# Altium footprint library WR-TBL_Wire Protector_7.50mm.PcbLib: 6 footprints
Each footprint in its own frame and in the unit in brackets; x right, y up, seen from the top. Pads: shape width x height; smd on the part's side, far side on the other; paste and mask are expansions set on the pad; w line width, h text height; cw(c..) or ccw(c..) is an arc to the next point about the centre after c.
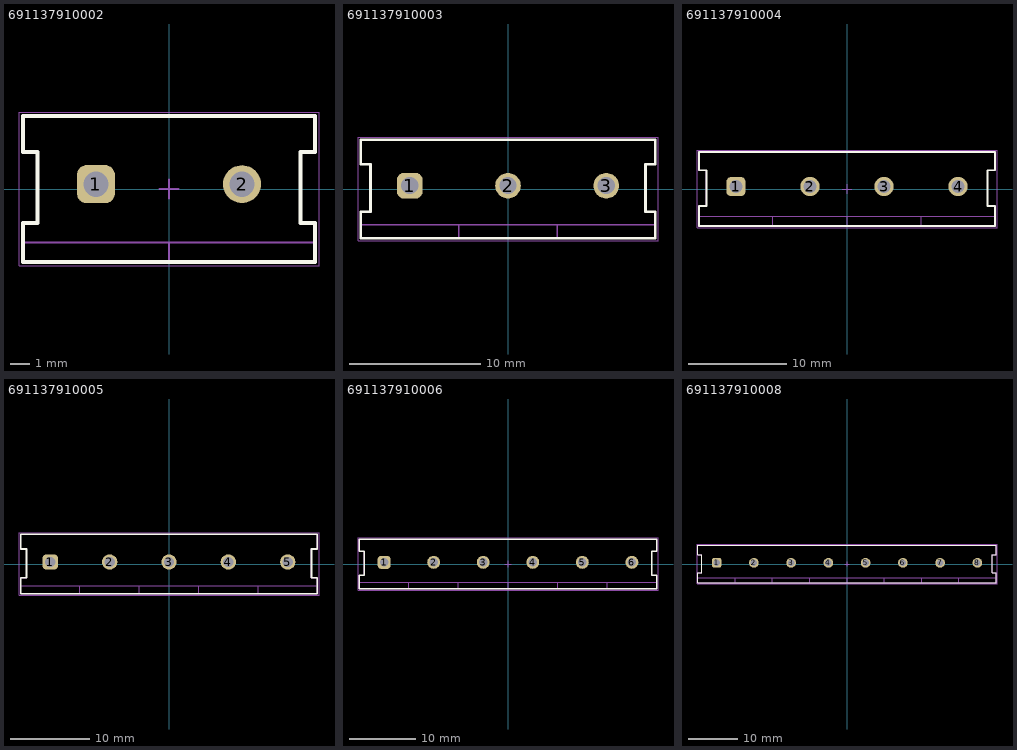
[diagram p0: the footprints below, top view; thin cyan lines are the x and y axes]

## 691137910002 [mm] "Horizontal Cable Entry with Pressure Clamp, pitch 7.5mm, 02p"
height 11.5
pads (2):
  rrect50% 1.95x1.95 hole 1.3: 1(-3.75,0.25)
  round 1.95 hole 1.3: 2(3.75,0.25)
Top Overlay:
  lines w0.2: -7.5,-3.75 -7.5,-1.74 -6.75,-1.74 -6.75,1.9 -7.5,1.9 -7.5,3.75 7.5,3.75 7.5,1.9 6.75,1.9 6.75,-1.74 7.5,-1.74 7.5,-3.75 -7.5,-3.75
Top Assembly:
  lines w0.1: -7.5,-2.745 7.5,-2.745 ; 0,-3.75 0,-2.75 ; -7.5,-3.75 7.5,-3.75 7.5,-1.74 6.75,-1.74 6.75,1.9 7.5,1.9 7.5,3.75 -7.5,3.75 -7.5,1.9 -6.75,1.9 -6.75,-1.74 -7.5,-1.74 -7.5,-3.75
Top Designator:
  text ".Designator" at -3.647,-0.357 h1
Top 3D Body:
  lines w0.1: -7.5,-2.745 7.5,-2.745 ; 0,-3.75 0,-2.75 ; -7.5,-3.75 -7.5,-1.74 -6.75,-1.74 -6.75,1.9 -7.5,1.9 -7.5,3.75 7.5,3.75 7.5,1.9 6.75,1.9 6.75,-1.74 7.5,-1.74 7.5,-3.75 -7.5,-3.75
Top Courtyard:
  lines w0.05: -7.7,-3.95 -7.7,3.95 7.7,3.95 7.7,-3.95 -7.7,-3.95
Top Component Center:
  lines w0.1: -0.5,0 0.5,0 ; 0,-0.5 0,0.5
3D body "691137910002.stp": height 11.52, standoff -3.58, extent -7.5,-3.75 7.5,3.75

## 691137910003 [mm] "Horizontal Cable Entry with Pressure Clamp, pitch 7.5mm, 03p"
height 11.5
pads (3):
  rrect50% 1.95x1.95 hole 1.3: 1(-7.5,0.25)
  round 1.95 hole 1.3: 2(0,0.25) 3(7.5,0.25)
Top Overlay:
  lines w0.2: -11.25,-3.75 -11.25,-1.74 -10.5,-1.74 -10.5,1.9 -11.25,1.9 -11.25,3.75 11.25,3.75 11.25,1.9 10.5,1.9 10.5,-1.74 11.25,-1.74 11.25,-3.75 -11.25,-3.75
Top Assembly:
  lines w0.1: -11.25,-2.745 11.25,-2.745 ; -3.75,-3.75 -3.75,-2.75 ; 3.75,-3.75 3.75,-2.75 ; -11.25,-3.75 11.25,-3.75 11.25,-1.74 10.5,-1.74 10.5,1.9 11.25,1.9 11.25,3.75 -11.25,3.75 -11.25,1.9 -10.5,1.9 -10.5,-1.74 -11.25,-1.74 -11.25,-3.75
Top Designator:
  text ".Designator" at -3.647,-0.357 h1
Top 3D Body:
  lines w0.1: -11.25,-2.745 11.25,-2.745 ; -3.75,-3.75 -3.75,-2.75 ; 3.75,-3.75 3.75,-2.75 ; -11.25,-3.75 -11.25,-1.74 -10.5,-1.74 -10.5,1.9 -11.25,1.9 -11.25,3.75 11.25,3.75 11.25,1.9 10.5,1.9 10.5,-1.74 11.25,-1.74 11.25,-3.75 -11.25,-3.75
Top Courtyard:
  lines w0.05: -11.45,-3.95 -11.45,3.95 11.45,3.95 11.45,-3.95 -11.45,-3.95
Top Component Center:
  lines w0.1: -0.5,0 0.5,0 ; 0,-0.5 0,0.5
3D body "691137910003.stp": height 11.52, standoff -3.58, extent -11.25,-3.75 11.25,3.75

## 691137910004 [mm] "Horizontal Cable Entry with Pressure Clamp, pitch 7.5mm, 04p"
height 11.5
pads (4):
  rrect50% 1.95x1.95 hole 1.3: 1(-11.25,0.25)
  round 1.95 hole 1.3: 2(-3.75,0.25) 3(3.75,0.25) 4(11.25,0.25)
Top Overlay:
  lines w0.2: -15,-3.75 15,-3.75 15,-1.74 14.25,-1.74 14.25,1.9 15,1.9 15,3.75 -15,3.75 -15,1.9 -14.25,1.9 -14.25,-1.74 -15,-1.74 -15,-3.75
Top Assembly:
  lines w0.1: -15,-2.745 15,-2.745 ; -7.5,-3.75 -7.5,-2.75 ; 0,-3.75 0,-2.75 ; 7.5,-3.75 7.5,-2.75 ; -15,-3.75 -15,-1.74 -14.25,-1.74 -14.25,1.9 -15,1.9 -15,3.75 15,3.75 15,1.9 14.25,1.9 14.25,-1.74 15,-1.74 15,-3.75 -15,-3.75
Top Designator:
  text ".Designator" at -3.647,-0.357 h1
Top 3D Body:
  lines w0.1: -15,-2.745 15,-2.745 ; -7.5,-3.75 -7.5,-2.75 ; 0,-3.75 0,-2.75 ; 7.5,-3.75 7.5,-2.75 ; -15,-3.75 15,-3.75 15,-1.74 14.25,-1.74 14.25,1.9 15,1.9 15,3.75 -15,3.75 -15,1.9 -14.25,1.9 -14.25,-1.74 -15,-1.74 -15,-3.75
Top Courtyard:
  lines w0.05: -15.2,-3.95 15.2,-3.95 15.2,3.95 -15.2,3.95 -15.2,-3.95
Top Component Center:
  lines w0.1: -0.5,0 0.5,0 ; 0,-0.5 0,0.5
3D body "691137910004.stp": height 11.52, standoff -3.58, extent -15,-3.75 15,3.75

## 691137910005 [mm] "Horizontal Cable Entry with Pressure Clamp, pitch 7.5mm, 05p"
height 11.5
pads (5):
  rrect50% 1.95x1.95 hole 1.3: 1(-15,0.25)
  round 1.95 hole 1.3: 2(-7.5,0.25) 3(0,0.25) 4(7.5,0.25) 5(15,0.25)
Top Overlay:
  lines w0.2: -18.75,-3.75 18.75,-3.75 18.75,-1.74 18,-1.74 18,1.9 18.75,1.9 18.75,3.75 -18.75,3.75 -18.75,1.9 -18,1.9 -18,-1.74 -18.75,-1.74 -18.75,-3.75
Top Assembly:
  lines w0.1: -18.75,-2.745 18.75,-2.745 ; -11.25,-3.75 -11.25,-2.75 ; -3.75,-3.75 -3.75,-2.75 ; 3.75,-3.75 3.75,-2.75 ; 11.25,-3.75 11.25,-2.75 ; -18.75,-3.75 -18.75,-1.74 -18,-1.74 -18,1.9 -18.75,1.9 -18.75,3.75 18.75,3.75 18.75,1.9 18,1.9 18,-1.74 18.75,-1.74 18.75,-3.75 -18.75,-3.75
Top Designator:
  text ".Designator" at -3.647,-0.357 h1
Top 3D Body:
  lines w0.1: -18.75,-2.745 18.75,-2.745 ; -11.25,-3.75 -11.25,-2.75 ; -3.75,-3.75 -3.75,-2.75 ; 3.75,-3.75 3.75,-2.75 ; 11.25,-3.75 11.25,-2.75 ; -18.75,-3.75 18.75,-3.75 18.75,-1.74 18,-1.74 18,1.9 18.75,1.9 18.75,3.75 -18.75,3.75 -18.75,1.9 -18,1.9 -18,-1.74 -18.75,-1.74 -18.75,-3.75
Top Courtyard:
  lines w0.05: -18.95,-3.95 18.95,-3.95 18.95,3.95 -18.95,3.95 -18.95,-3.95
Top Component Center:
  lines w0.1: -0.5,0 0.5,0 ; 0,-0.5 0,0.5
3D body "691137910005.stp": height 11.52, standoff -3.58, extent -18.75,-3.75 18.75,3.75

## 691137910006 [mm] "Horizontal Cable Entry with Pressure Clamp, pitch 7.5mm, 06p"
height 11.5
pads (6):
  rrect50% 1.95x1.95 hole 1.3: 1(-18.75,0.25)
  round 1.95 hole 1.3: 2(-11.25,0.25) 3(-3.75,0.25) 4(3.75,0.25) 5(11.25,0.25) 6(18.75,0.25)
Top Overlay:
  lines w0.2: -22.5,-3.75 -22.5,-1.74 -21.75,-1.74 -21.75,1.9 -22.5,1.9 -22.5,3.75 22.5,3.75 22.5,1.9 21.75,1.9 21.75,-1.74 22.5,-1.74 22.5,-3.75 -22.5,-3.75
Top Assembly:
  lines w0.1: -22.5,-2.745 22.5,-2.745 ; -15,-3.75 -15,-2.75 ; -7.5,-3.75 -7.5,-2.75 ; 0,-3.75 0,-2.75 ; 7.5,-3.75 7.5,-2.75 ; 15,-3.75 15,-2.75 ; -22.5,-3.75 22.5,-3.75 22.5,-1.74 21.75,-1.74 21.75,1.9 22.5,1.9 22.5,3.75 -22.5,3.75 -22.5,1.9 -21.75,1.9 -21.75,-1.74 -22.5,-1.74 -22.5,-3.75
Top Designator:
  text ".Designator" at -3.647,-0.357 h1
Top 3D Body:
  lines w0.1: -22.5,-2.745 22.5,-2.745 ; -15,-3.75 -15,-2.75 ; -7.5,-3.75 -7.5,-2.75 ; 0,-3.75 0,-2.75 ; 7.5,-3.75 7.5,-2.75 ; 15,-3.75 15,-2.75 ; -22.5,-3.75 -22.5,-1.74 -21.75,-1.74 -21.75,1.9 -22.5,1.9 -22.5,3.75 22.5,3.75 22.5,1.9 21.75,1.9 21.75,-1.74 22.5,-1.74 22.5,-3.75 -22.5,-3.75
Top Courtyard:
  lines w0.05: -22.7,-3.95 -22.7,3.95 22.7,3.95 22.7,-3.95 -22.7,-3.95
Top Component Center:
  lines w0.1: -0.5,0 0.5,0 ; 0,-0.5 0,0.5
3D body "691137910006.stp": height 11.52, standoff -3.58, extent -22.5,-3.75 22.5,3.75

## 691137910008 [mm] "Horizontal Cable Entry with Pressure Clamp, pitch 7.5mm, 08p"
height 11.5
pads (8):
  rrect50% 1.95x1.95 hole 1.3: 1(-26.25,0.25)
  round 1.95 hole 1.3: 2(-18.75,0.25) 3(-11.25,0.25) 4(-3.75,0.25) 5(3.75,0.25) 6(11.25,0.25) 7(18.75,0.25) 8(26.25,0.25)
Top Overlay:
  lines w0.2: -30,-3.75 -30,-1.74 -29.25,-1.74 -29.25,1.9 -30,1.9 -30,3.75 30,3.75 30,1.9 29.25,1.9 29.25,-1.74 30,-1.74 30,-3.75 -30,-3.75
Top Assembly:
  lines w0.1: -30,-2.745 30,-2.745 ; -22.5,-3.75 -22.5,-2.75 ; -15,-3.75 -15,-2.75 ; -7.5,-3.75 -7.5,-2.75 ; 0,-3.75 0,-2.75 ; 7.5,-3.75 7.5,-2.75 ; 15,-3.75 15,-2.75 ; 22.5,-3.75 22.5,-2.75 ; -30,-3.75 30,-3.75 30,-1.74 29.25,-1.74 29.25,1.9 30,1.9 30,3.75 -30,3.75 -30,1.9 -29.25,1.9 -29.25,-1.74 -30,-1.74 -30,-3.75
Top Designator:
  text ".Designator" at -3.647,-0.357 h1
Top 3D Body:
  lines w0.1: -30,-2.745 30,-2.745 ; -22.5,-3.75 -22.5,-2.75 ; -15,-3.75 -15,-2.75 ; -7.5,-3.75 -7.5,-2.75 ; 0,-3.75 0,-2.75 ; 7.5,-3.75 7.5,-2.75 ; 15,-3.75 15,-2.75 ; 22.5,-3.75 22.5,-2.75 ; -30,-3.75 -30,-1.74 -29.25,-1.74 -29.25,1.9 -30,1.9 -30,3.75 30,3.75 30,1.9 29.25,1.9 29.25,-1.74 30,-1.74 30,-3.75 -30,-3.75
Top Courtyard:
  lines w0.05: -30.2,-3.95 -30.2,3.95 30.2,3.95 30.2,-3.95 -30.2,-3.95
Top Component Center:
  lines w0.1: -0.5,0 0.5,0 ; 0,-0.5 0,0.5
3D body "691137910008.stp": height 11.52, standoff -3.58, extent -30,-3.75 30,3.75